# EAGLE library part BMP388BREAKOUT (library Breakouts)
Adafruit BMP388 - Precision Barometric Pressure and Altimeter - STEMMA QT https://www.adafruit.com/product/3966
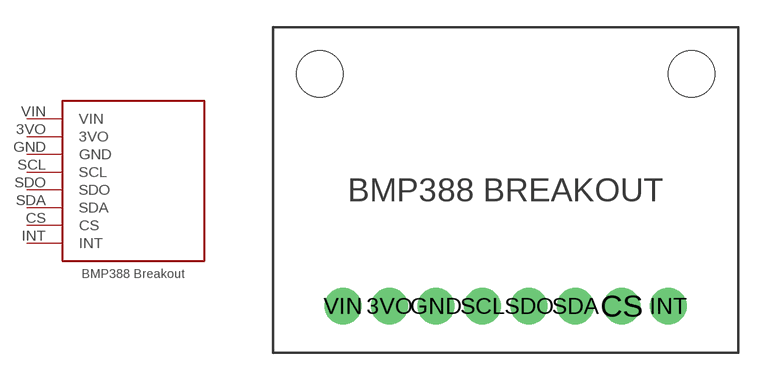
[diagram p1: symbol with the pads of BMP388BREAKOUT; footprint BMP388BREAKOUT]

Designator prefix -

## BMP388BREAKOUT  [BMP388BREAKOUT]
3VO  3VO
CS  CS
GND  GND
INT  INT
SCL  SCL
SDA  SDA
SDO  SDO
VIN  VIN

## Footprint BMP388BREAKOUT (pad centres in mm)
drill 1 pad 2: 3VO -6.35,-6.35; CS 6.35,-6.35; GND -3.81,-6.35; INT 8.89,-6.35; SCL -1.27,-6.35; SDA 3.81,-6.35; SDO 1.27,-6.35; VIN -8.89,-6.35
hole 2.54 at 10.16,6.35
hole 2.54 at -10.16,6.35